# EAGLE library part 2092-1160/200-000 (library con_wago_5.0 mm)
Serie 2092, Federleiste eCOM mit geraden L?tstiften mit Griffplatte THR/ Series 2092, eCOM pluggable PCB connector with straight solder pins with gripping plate THR Polzahl / Pole No.: 10 Rasterma? / Pitch: 5 mm Bemessungsspannung / Rated Voltage: 320 V Nennstrom / Nominal Current: 16 A Leiterquerschnitt / Conductor Size: 0.2 - 2.5 mm? Anschlusstechnik / Connection Technology: CAGE CLAMP? S L?tstiftl?nge: / Solder Pin Length: 2.4 mm Farbe / Color: lichtgrau / light gray Stand: 01.01.2013. Die jeweils aktuellen Daten zu diesem Artikel finden Sie in unserem Produktkatalog, den Sie unter www.wago.com einsehen k?nnen. As of: 01/01/2013. Please find the newest data for this article in our product catalogue, which can be viewed under www.wago.com.
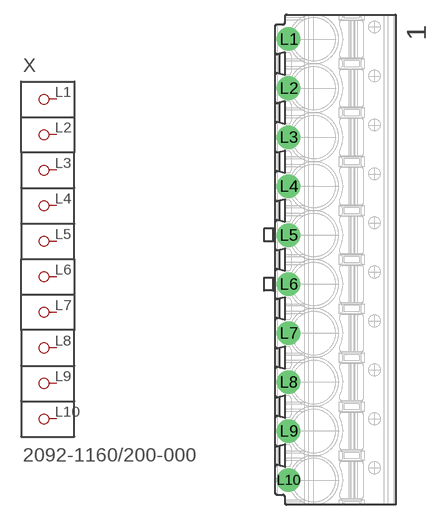
[diagram p21: symbol with the pads of P-2092-1160/200-000; footprint P-2092-1160/200-000]

Designator prefix X

## 2092-1160/200-000  [P-2092-1160/200-000]
L1  P1
L2  P2
L3  P3
L4  P4
L5  P5
L6  P6
L7  P7
L8  P8
L9  P9
L10  P10

## Footprint P-2092-1160/200-000 (pad centres in mm)
drill 1.6 pad 2 round: L1 -4.2,22.512; L2 -4.2,17.512; L3 -4.2,12.512; L4 -4.2,7.513; L5 -4.2,2.513; L6 -4.2,-2.487; L7 -4.2,-7.487; L8 -4.2,-12.488; L9 -4.2,-17.488; L10 -4.2,-22.488